# EAGLE library part ADXL202E (library ADXL202)
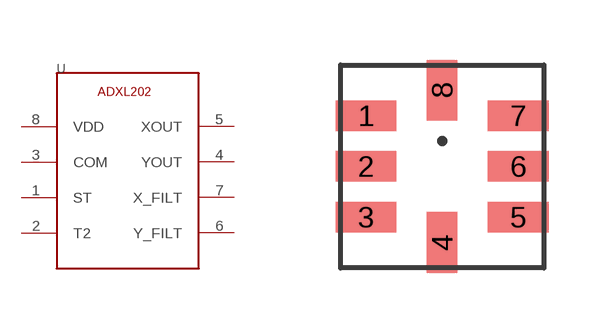
[diagram p0: symbol with the pads of LCC-8; footprint LCC-8]

Designator prefix -

## ADXL202E  [LCC-8]
1  ST
2  T2  pas
3  COM  pwr
4  YOUT  out
5  XOUT  out
6  Y_FILT  pas
7  X_FILT  pas
8  VDD  pwr

## Footprint LCC-8 (pad centres in mm)
smd 1.524 x 0.762: 1 -1.905,1.27; 2 -1.905,0; 3 -1.905,-1.27; 5 1.905,-1.27; 6 1.905,0; 7 1.905,1.27
smd 0.762 x 1.524: 4 0,-1.905; 8 0,1.905